# Altium footprint library Pcb Library.PcbLib: 25 footprints (part 2 of 2)
Each footprint in its own frame and in the unit in brackets; x right, y up, seen from the top. Pads: shape width x height; smd on the part's side, far side on the other; paste and mask are expansions set on the pad; w line width, h text height; cw(c..) or ccw(c..) is an arc to the next point about the centre after c.
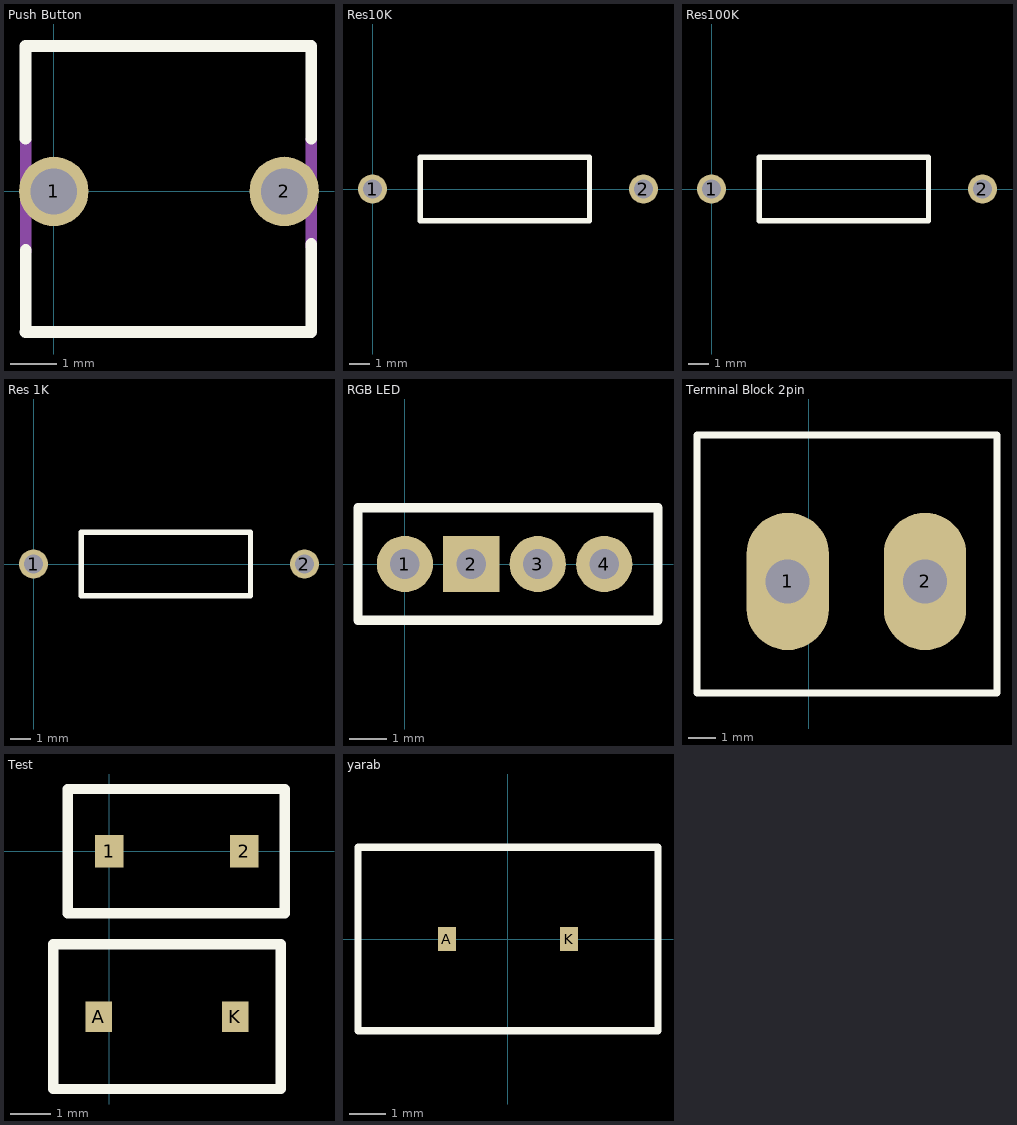
[diagram p1: the footprints below, top view; thin cyan lines are the x and y axes]

## Push Button [mm]
pads (2):
  round 1.508 hole 1: 1(0,0) 2(5,0)
Top Overlay:
  lines w0.254: -0.612,-3.048 5.588,-3.048 5.588,-1.143 ; -0.612,1.143 -0.612,3.152 5.588,3.152 5.588,1.143 ; -0.61,-3.046 -0.61,-1.27
Mechanical 1:
  lines w0.254: -0.61,-1.295 -0.61,1.092 ; 5.588,-1.194 5.588,1.118

## Res10K [mm]
pads (2):
  round 1.4 hole 0.9: 1(0,0) 2(13,0)
Top Overlay:
  lines w0.254: 2.286,-1.524 10.414,-1.524 10.414,1.524 2.286,1.524 2.286,-1.524
3D body "res10k[3].STEP": height 4.04, standoff -7.5, extent -0.196,-1.23 13.404,1.27

## Res100K [mm]
pads (2):
  round 1.4 hole 0.9: 1(0,0) 2(13,0)
Top Overlay:
  lines w0.254: 2.286,-1.524 10.414,-1.524 10.414,1.524 2.286,1.524 2.286,-1.524
3D body "res100k22.STEP": height 4.04, standoff -7.5, extent -0.196,-1.27 13.404,1.23

## Res 1K [mm]
pads (2):
  round 1.4 hole 0.9: 1(0,0) 2(13,0)
Top Overlay:
  lines w0.254: 2.286,-1.524 10.414,-1.524 10.414,1.524 2.286,1.524 2.286,-1.524
3D body "res1k.STEP": height 4.04, standoff -7.5, extent -0.196,-1.27 13.404,1.23

## RGB LED [mil]
pads (4):
  round 60 hole 31.5: 1(0,0) 3(141.73,0) 4(212.6,0)
  rect 60x60 hole 31.5: 2(70.87,0)
Top Overlay:
  lines w10: -50,-60 270,-60 270,60 -50,60 -50,-60

## SHOTKY [mm]

## Terminal Block 2pin [mm]
pads (2):
  oval 3x5 hole 1.6: 1(-0.762,9.144) 2(4.238,9.144)
Top Overlay:
  lines w0.254: -4.064,5.08 6.858,5.08 6.858,14.478 -4.064,14.478 -4.064,5.08
3D body "OSTTA020161--3DModel-STEP-56544.STEP": height 12.6, standoff -3.8, extent -3.903,5.224 6.697,14.224

## Test [mm]
pads (4):
  rect 0.7x0.8 smd: 1(0,0) 2(3.325,0)
  rect 0.65x0.75 smd: A(-0.254,-4.064) K(3.096,-4.064)
Top Overlay:
  lines w0.254: -1.373,-5.842 4.215,-5.842 4.215,-2.286 -1.373,-2.286 -1.373,-5.842 ; -1.016,-1.524 4.318,-1.524 4.318,1.524 -1.016,1.524 -1.016,-1.524
3D body "1N5819HW-7-F--3DModel-STEP-56544.STEP": height 1.5, standoff -0.03, extent -0.404,-4.839 3.246,-3.289
3D body "1N5819HW-7-F--3DModel-STEP-56544.STEP": height 1.5, standoff -0.03, extent -0.047,-0.762 3.603,0.788

## yarab [mm]
pads (2):
  rect 0.5x0.65 smd: A(-1.662,0) K(1.663,0)
Top Overlay:
  lines w0.2: -4.087,-2.5 4.088,-2.5 4.088,-1.25 4.088,1.25 4.088,2.5 2.044,2.5 -2.044,2.5 -4.087,2.5 -4.087,0 -4.087,-2.5
3D body "1N5819HW-7-F--3DModel-STEP-56544.STEP": height 1.5, standoff -0.03, extent -1.825,-0.775 1.825,0.775